# EAGLE library part MICROSD (library Bjorn4)
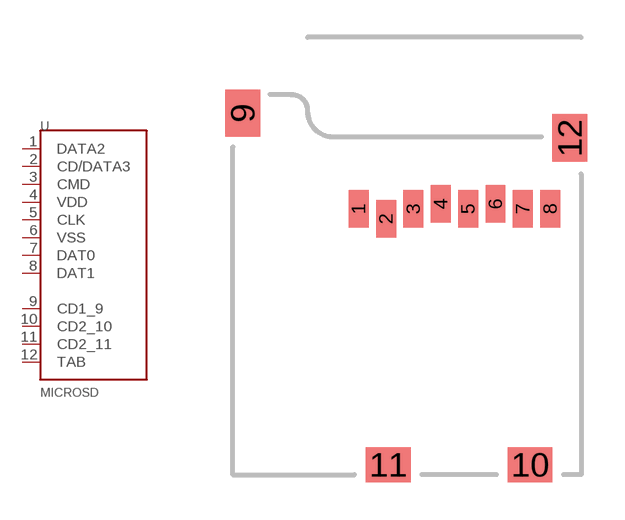
[diagram p3: symbol with the pads of 10100581; footprint 10100581]

Designator prefix -

## MICROSD10100581  [10100581]
1  DATA2
2  CD/DATA3
3  CMD
4  VDD
5  CLK
6  VSS
7  DAT0
8  DAT1
9  CD1_9
10  CD2_10
11  CD2_11
12  TAB

## Footprint 10100581 (pad centres in mm)
smd 0.8 x 1.5: 1 -2.59,4.35; 2 -1.49,3.95; 3 -0.39,4.35; 4 0.71,4.55; 5 1.81,4.35; 6 2.91,4.55; 7 4.01,4.35; 8 5.11,4.35
smd 1.4 x 1.9: 9 -7.25,8.2; 12 5.9,7.2
smd 1.8 x 1.4: 10 4.3,-5.95; 11 -1.4,-5.95